# EAGLE library part BQ24630 (library bq24630)
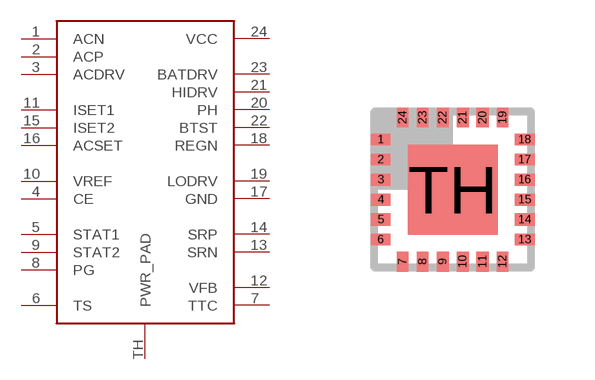
[diagram p0: symbol with the pads of HVQFN24; footprint HVQFN24]

Designator prefix -

## BQ24630VQFN24  [HVQFN24]
1  ACN
2  ACP
3  ACDRV
4  CE
5  STAT1
6  TS
7  TTC
8  PG
9  STAT2
10  VREF
11  ISET1
12  VFB
13  SRN
14  SRP
15  ISET2
16  ACSET
17  GND
18  REGN
19  LODRV
20  PH
21  HIDRV
22  BTST
23  BATDRV
24  VCC
TH  PWR_PAD

## Footprint HVQFN24 (pad centres in mm)
plastic thermal enhanced very thin quad flat package SOT616-1 no leads; 24 terminals; body 4 x 4 x 0.85 mm Source: PCA9555_5.pdf
smd 0.5 x 0.3: 1 -1.8,1.25; 2 -1.8,0.75; 3 -1.8,0.25; 4 -1.8,-0.25; 5 -1.8,-0.75; 6 -1.8,-1.25; 13 1.8,-1.25; 14 1.8,-0.75; 15 1.8,-0.25; 16 1.8,0.25; 17 1.8,0.75; 18 1.8,1.25
smd 0.3 x 0.5: 7 -1.25,-1.8; 8 -0.75,-1.8; 9 -0.25,-1.8; 10 0.25,-1.8; 11 0.75,-1.8; 12 1.25,-1.8; 19 1.25,1.8; 20 0.75,1.8; 21 0.25,1.8; 22 -0.25,1.8; 23 -0.75,1.8; 24 -1.25,1.8
smd 2.25 x 2.25: TH 0,0